# EAGLE library part MOLEX-47346-0001 (library usb_con-update)
MICRO USB B, BOTTOM MOUNT
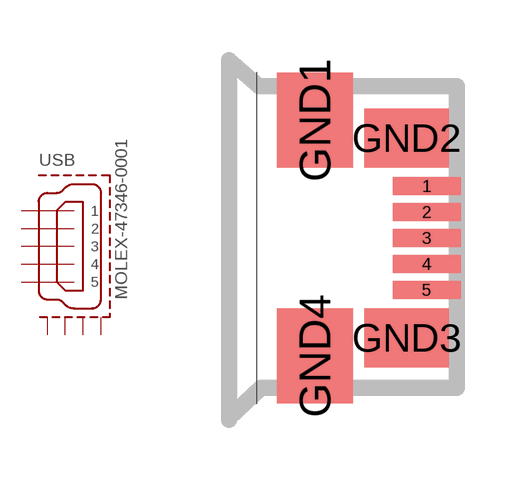
[diagram p35: symbol with the pads of MOLEX-47364-0001; footprint MOLEX-47364-0001]

Designator prefix USB

## MOLEX-47346-0001  [MOLEX-47364-0001]
1  1  in
2  2  in
3  3  in
4  4  nc
5  5  in
GND1  GND1
GND2  GND2
GND3  GND3
GND4  GND4

## Footprint MOLEX-47364-0001 (pad centres in mm)
smd 1.7 x 0.45: 1 2.8,1.3; 2 2.8,0.65; 3 2.8,0; 4 2.8,-0.65; 5 2.8,-1.3
smd 1.9 x 2.375: GND1 0,2.95; GND4 0,-2.95
smd 2.1 x 1.475: GND2 2.3,2.5; GND3 2.3,-2.5